# Altium footprint library Main.PcbLib: 36 footprints (part 1 of 3)
Each footprint in its own frame and in the unit in brackets; x right, y up, seen from the top. Pads: shape width x height; smd on the part's side, far side on the other; paste and mask are expansions set on the pad; w line width, h text height; cw(c..) or ccw(c..) is an arc to the next point about the centre after c.
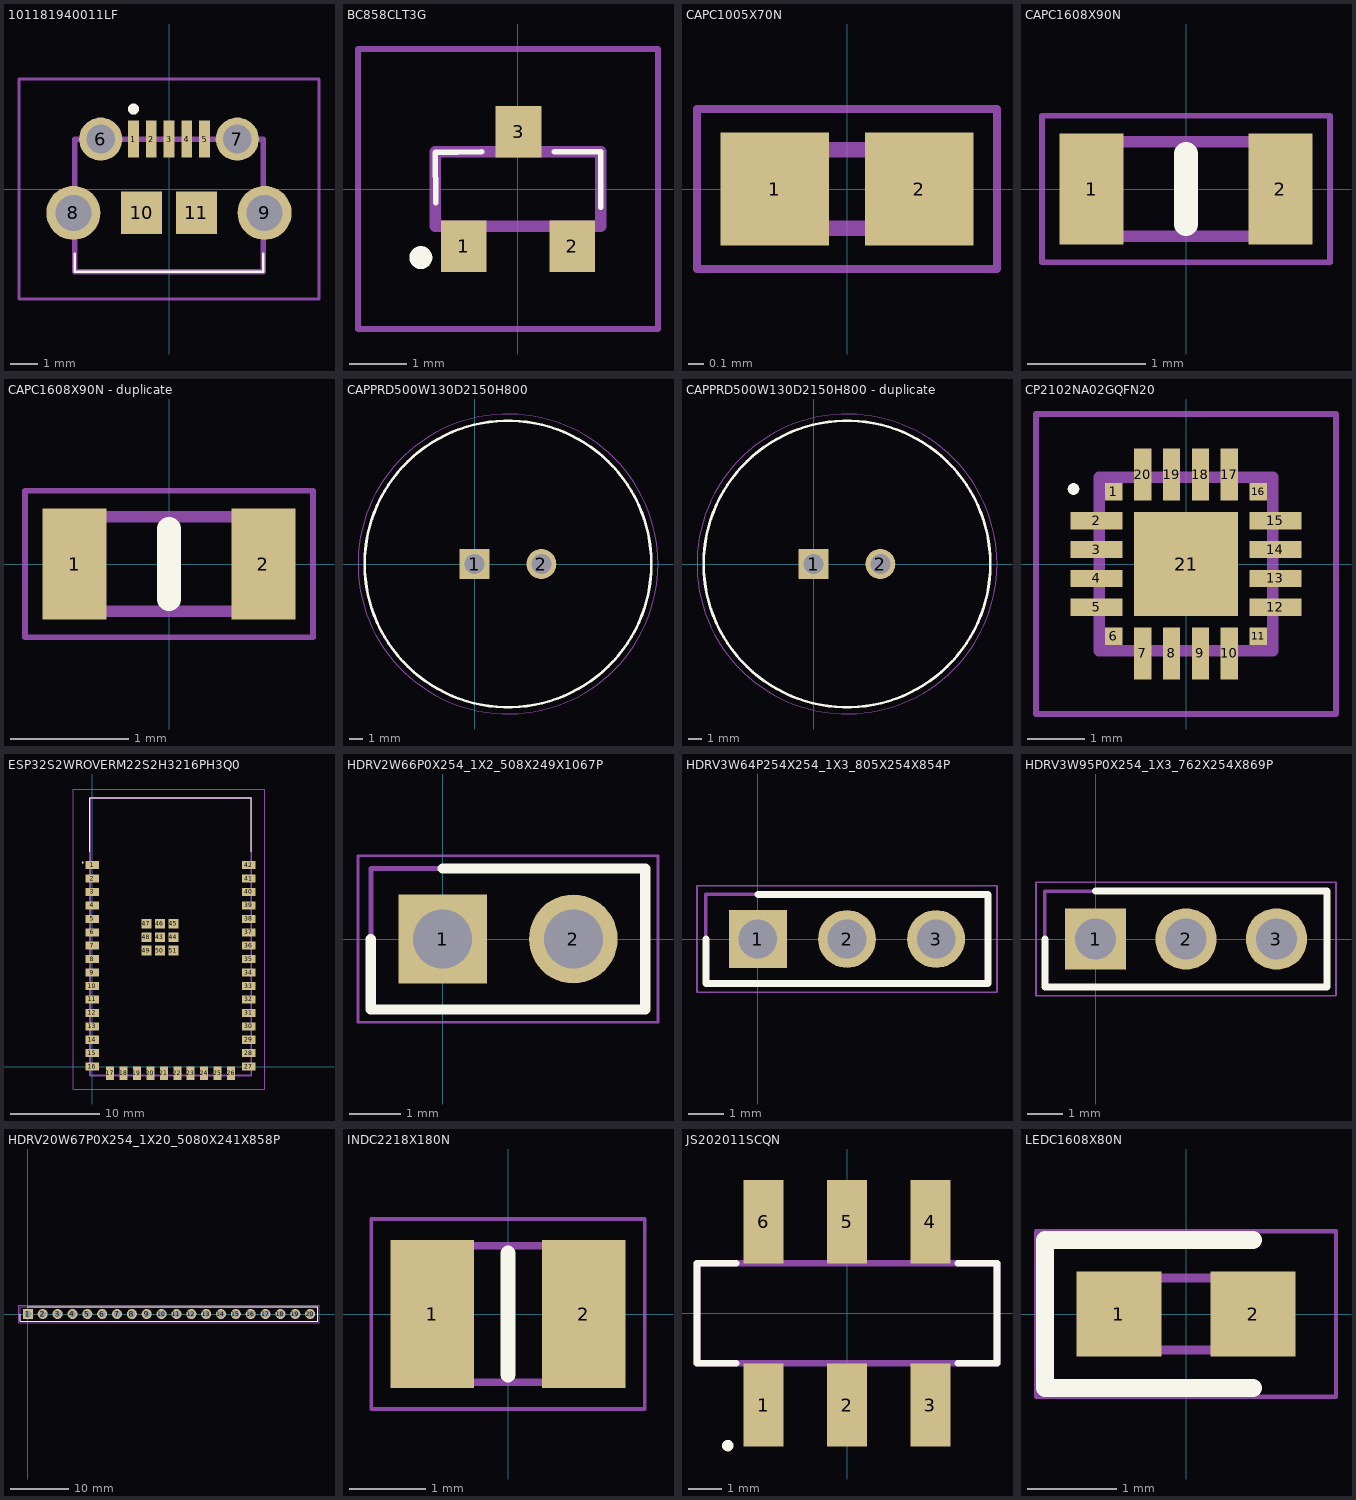
[diagram p0: the footprints below, top view; thin cyan lines are the x and y axes]

## 101181940011LF [mm]
pads (11):
  rect 0.4x1.35 smd mask+0.102: 1(-1.3,1.825) 2(-0.65,1.825) 3(0,1.825) 4(0.65,1.825) 5(1.3,1.825)
  round 1.582 hole 1.055: 6(-2.5,1.825) 7(2.5,1.825)
  round 1.98 hole 1.32: 8(-3.5,-0.875) 9(3.5,-0.875)
  rect 1.5x1.55 smd: 10(-1,-0.875) 11(1,-0.875)
Top Overlay:
  lines w0.1: -3.45,-2.375 -3.45,-3.025 3.45,-3.025 3.45,-2.375
  lines w0.2: -1.4,2.925 cw(c-1.3,2.925) -1.2,2.925 cw(c-1.3,2.925) -1.4,2.925
Mechanical 13:
  lines w0.2: -3.45,-3.025 3.45,-3.025 3.45,1.825 -3.45,1.825 -3.45,-3.025
Mechanical 15:
  lines w0.1: -5.49,-4.025 5.49,-4.025 5.49,4.025 -5.49,4.025 -5.49,-4.025
3D body "10118194-0011LF.stp": height 2.1, standoff -5, extent -4.06,-3.025 4.06,2.46

## BC858CLT3G [mm]
pads (3):
  rect 0.8x0.9 smd: 1(-0.95,-1) 2(0.95,-1) 3(0.01,1)
Top Overlay:
  lines w0.1: -1.44,-0.24 -1.45,0.64 -0.64,0.65 ; 0.64,0.65 1.45,0.65 1.45,-0.32
  lines w0.2: -1.8,-1.2 ccw(c-1.7,-1.2) -1.6,-1.2 ccw(c-1.7,-1.2) -1.8,-1.2
Mechanical 13:
  lines w0.2: -1.45,-0.65 1.45,-0.65 1.45,0.65 -1.45,0.65 -1.45,-0.65
Mechanical 15:
  lines w0.1: -2.8,-2.45 2.45,-2.45 2.45,2.45 -2.8,2.45 -2.8,-2.45

## CAPC1005X70N [mm]
pads (2):
  rect 0.69x0.72 smd: 1(-0.46,0) 2(0.46,0)
Mechanical 13:
  lines w0.1: -0.5,-0.25 -0.5,0.25 0.5,0.25 0.5,-0.25 -0.5,-0.25
Mechanical 15:
  lines w0.05: -0.955,-0.51 -0.955,0.51 0.955,0.51 0.955,-0.51 -0.955,-0.51
3D body "GRJ155R60J106ME11D.stp": height 0.7, standoff 0, extent -0.5,-0.25 0.5,0.25

## CAPC1608X90N [mm]
pads (2):
  rect 0.54x0.94 smd: 1(-0.8,0) 2(0.8,0)
Top Overlay:
  lines w0.2: 0,-0.3 0,0.3
Mechanical 13:
  lines w0.1: -0.8,-0.4 0.8,-0.4 0.8,0.4 -0.8,0.4 -0.8,-0.4
Mechanical 15:
  lines w0.05: -1.22,-0.62 1.22,-0.62 1.22,0.62 -1.22,0.62 -1.22,-0.62
3D body "C1608X7S1A475K080AC.stp": height 0.9, standoff 0, extent -0.8,-0.4 0.8,0.4

## CAPC1608X90N - duplicate [mm]
pads (2):
  rect 0.54x0.94 smd: 1(-0.8,0) 2(0.8,0)
Top Overlay:
  lines w0.2: 0,-0.3 0,0.3
Mechanical 13:
  lines w0.1: -0.8,-0.4 0.8,-0.4 0.8,0.4 -0.8,0.4 -0.8,-0.4
Mechanical 15:
  lines w0.05: -1.22,-0.62 1.22,-0.62 1.22,0.62 -1.22,0.62 -1.22,-0.62
3D body "C1608X7S1A475K080AC.stp": height 0.9, standoff 0, extent -0.8,-0.4 0.8,0.4

## CAPPRD500W130D2150H800 [mm]
pads (2):
  rect 2.25x2.25 hole 1.5: 1(0,0)
  round 2.25 hole 1.5: 2(5,0)
Top Overlay:
  circle w0.2: c2.5,0 r10.75
Mechanical 13:
  circle w0.1: c2.5,0 r10.75
Mechanical 15:
  circle w0.05: c2.5,0 r11.25
3D body "DB-5R5D105T.stp": height 8, standoff -10, extent -8.25,-10.747 13.25,10.747

## CAPPRD500W130D2150H800 - duplicate [mm]
pads (2):
  rect 2.25x2.25 hole 1.5: 1(0,0)
  round 2.25 hole 1.5: 2(5,0)
Top Overlay:
  circle w0.2: c2.5,0 r10.75
Mechanical 13:
  circle w0.1: c2.5,0 r10.75
Mechanical 15:
  circle w0.05: c2.5,0 r11.25
3D body "DB-5R5D105T.stp": height 8, standoff -10, extent -8.25,-10.747 13.25,10.747

## CP2102NA02GQFN20 [mm]
pads (21):
  rect 0.3x0.3 smd: 1(-1.25,1.25) 6(-1.25,-1.25) 11(1.25,-1.25) 16(1.25,1.25)
  rect 0.9x0.3 smd: 2(-1.55,0.75) 3(-1.55,0.25) 4(-1.55,-0.25) 5(-1.55,-0.75) 12(1.55,-0.75) 13(1.55,-0.25) 14(1.55,0.25) 15(1.55,0.75)
  rect 0.3x0.9 smd: 7(-0.75,-1.55) 8(-0.25,-1.55) 9(0.25,-1.55) 10(0.75,-1.55) 17(0.75,1.55) 18(0.25,1.55) 19(-0.25,1.55) 20(-0.75,1.55)
  rect 1.8x1.8 smd: 21(0,0)
Top Overlay:
  lines w0.1: -2,1.3 ccw(c-1.95,1.3) -1.9,1.3 ccw(c-1.95,1.3) -2,1.3
Mechanical 13:
  lines w0.2: -1.5,-1.5 -1.5,1.5 1.5,1.5 1.5,-1.5 -1.5,-1.5
Mechanical 15:
  lines w0.1: -2.6,-2.6 -2.6,2.6 2.6,2.6 2.6,-2.6 -2.6,-2.6
3D body "CP2102N-A02-GQFN20R.stp": height 0.9, standoff 0, extent -1.5,-1.5 1.5,1.5

## ESP32S2WROVERM22S2H3216PH3Q0 [mm]
pads (51):
  rect 1.5x0.9 smd: 1(0,22.5) 2(0,21) 3(0,19.5) 4(0,18) 5(0,16.5) 6(0,15) 7(0,13.5) 8(0,12) 9(0,10.5) 10(0,9) 11(0,7.5) 12(0,6) 13(0,4.5) 14(0,3) 15(0,1.5) 16(0,0) 27(17.5,0) 28(17.5,1.5) 29(17.5,3) 30(17.5,4.5) 31(17.5,6) 32(17.5,7.5) 33(17.5,9) 34(17.5,10.5) 35(17.5,12) 36(17.5,13.5) 37(17.5,15) 38(17.5,16.5) 39(17.5,18) 40(17.5,19.5) 41(17.5,21) 42(17.5,22.5)
  rect 0.9x1.5 smd: 17(2,-0.75) 18(3.5,-0.75) 19(5,-0.75) 20(6.5,-0.75) 21(8,-0.75) 22(9.5,-0.75) 23(11,-0.75) 24(12.5,-0.75) 25(14,-0.75) 26(15.5,-0.75)
  rect 1.1x1.1 smd: 43(7.56,14.45) 44(9.06,14.45) 45(9.06,15.95) 46(7.56,15.95) 47(6.06,15.95) 48(6.06,14.45) 49(6.06,12.95) 50(7.56,12.95) 51(9.06,12.95)
Top Overlay:
  lines w0.1: -0.25,24 -0.25,30 17.75,30 17.75,24 ; -1.1,22.8 ccw(c-1.05,22.8) -1,22.8 ccw(c-1.05,22.8) -1.1,22.8
Mechanical 13:
  lines w0.2: -0.25,-1 -0.25,30 17.75,30 17.75,-1 -0.25,-1
Mechanical 15:
  lines w0.1: -2.1,-2.5 -2.1,31 19.25,31 19.25,-2.5 -2.1,-2.5
3D body "ESP32-S2-WROVER_M22S2H3216PH3Q0_.stp": height 3.55, standoff 0, extent -0.25,-1 17.75,30

## HDRV2W66P0X254_1X2_508X249X1067P [mm]
pads (2):
  rect 1.725x1.725 hole 1.15: 1(0,0)
  round 1.725 hole 1.15: 2(2.54,0)
Top Overlay:
  lines w0.2: -1.395,0 -1.395,-1.37 3.935,-1.37 3.935,1.37 0,1.37
Mechanical 13:
  lines w0.1: -1.395,-1.37 3.935,-1.37 3.935,1.37 -1.395,1.37 -1.395,-1.37
Mechanical 15:
  lines w0.05: -1.645,-1.62 4.185,-1.62 4.185,1.62 -1.645,1.62 -1.645,-1.62
3D body "22-28-4027.stp": height 10.54, standoff -2.92, extent -1.27,-1.372 3.81,1.118

## HDRV3W64P254X254_1X3_805X254X854P [mm]
pads (3):
  rect 1.65x1.65 hole 1.1: 1(0,0)
  round 1.65 hole 1.1: 2(2.54,0) 3(5.08,0)
Top Overlay:
  lines w0.2: -1.485,0 -1.485,-1.27 6.565,-1.27 6.565,1.27 0,1.27
Mechanical 13:
  lines w0.1: -1.485,-1.27 6.565,-1.27 6.565,1.27 -1.485,1.27 -1.485,-1.27
Mechanical 15:
  lines w0.05: -1.735,-1.52 6.815,-1.52 6.815,1.52 -1.735,1.52 -1.735,-1.52
3D body "61300311121.stp": height 8.54, standoff -3, extent -1.485,-1.27 6.565,1.27

## HDRV3W95P0X254_1X3_762X254X869P [mm]
pads (3):
  rect 1.725x1.725 hole 1.15: 1(0,0)
  round 1.725 hole 1.15: 2(2.54,0) 3(5.08,0)
Top Overlay:
  lines w0.2: -1.42,0 -1.42,-1.345 6.5,-1.345 6.5,1.345 0,1.345
Mechanical 13:
  lines w0.1: -1.42,-1.345 -1.42,1.345 6.5,1.345 6.5,-1.345 -1.42,-1.345
Mechanical 15:
  lines w0.05: -1.67,-1.595 -1.67,1.595 6.75,1.595 6.75,-1.595 -1.67,-1.595
3D body "61300311121.stp": height 8.69, standoff -3.2, extent -1.27,-1.27 6.35,1.27

## HDRV20W67P0X254_1X20_5080X241X858P [mm]
pads (20):
  rect 1.725x1.725 hole 1.15: 1(0,0)
  round 1.725 hole 1.15: 2(2.54,0) 3(5.08,0) 4(7.62,0) 5(10.16,0) 6(12.7,0) 7(15.24,0) 8(17.78,0) 9(20.32,0) 10(22.86,0) 11(25.4,0) 12(27.94,0) 13(30.48,0) 14(33.02,0) 15(35.56,0) 16(38.1,0) 17(40.64,0) 18(43.18,0) 19(45.72,0) 20(48.26,0)
Top Overlay:
  lines w0.2: -1.27,0 -1.27,-1.205 49.53,-1.205 49.53,1.205 0,1.205
Mechanical 13:
  lines w0.1: -1.27,-1.205 49.53,-1.205 49.53,1.205 -1.27,1.205 -1.27,-1.205
Mechanical 15:
  lines w0.05: -1.52,-1.455 49.78,-1.455 49.78,1.455 -1.52,1.455 -1.52,-1.455
3D body "10129378-920001BLF.stp": height 8.58, standoff -3.3, extent -1.27,-1.205 49.53,1.205

## INDC2218X180N [mm]
pads (2):
  rect 1.1x1.95 smd: 1(-1,0) 2(1,0)
Top Overlay:
  lines w0.2: 0,-0.8 0,0.8
Mechanical 13:
  lines w0.1: -1.1,-0.9 -1.1,0.9 1.1,0.9 1.1,-0.9 -1.1,-0.9
Mechanical 15:
  lines w0.05: -1.8,-1.25 -1.8,1.25 1.8,1.25 1.8,-1.25 -1.8,-1.25
3D body "LB2016T680K.stp": height 1.8, standoff 0, extent -1.1,-0.9 1.1,0.9

## JS202011SCQN [mm]
pads (6):
  rect 1.2x2.5 smd: 1(-2.5,-2.75) 2(0,-2.75) 3(2.5,-2.75) 4(2.5,2.75) 5(0,2.75) 6(-2.5,2.75)
Top Overlay:
  circle w0.2: c-3.578,-3.968 r0.072
  lines w0.2: -3.323,-1.5 -4.5,-1.5 -4.5,1.5 -3.323,1.5 ; 3.323,-1.5 4.5,-1.5 4.5,1.5 3.323,1.5
Mechanical 13:
  lines w0.2: -4.5,-1.5 4.5,-1.5 4.5,1.5 -4.5,1.5 -4.5,-1.5

## LEDC1608X80N [mm]
pads (2):
  rect 0.95x0.95 smd: 1(-0.75,0) 2(0.75,0)
Top Overlay:
  lines w0.2: 0.75,-0.825 -1.575,-0.825 -1.575,0.825 0.75,0.825
Mechanical 13:
  lines w0.1: -0.8,0.133 -0.533,0.4 ; -0.8,-0.4 0.8,-0.4 0.8,0.4 -0.8,0.4 -0.8,-0.4
Mechanical 15:
  lines w0.05: -1.675,-0.925 1.675,-0.925 1.675,0.925 -1.675,0.925 -1.675,-0.925